# Altium footprint library CAMERON.PcbLib: 58 footprints (part 4 of 4)
Each footprint in its own frame and in the unit in brackets; x right, y up, seen from the top. Pads: shape width x height; smd on the part's side, far side on the other; paste and mask are expansions set on the pad; w line width, h text height; cw(c..) or ccw(c..) is an arc to the next point about the centre after c.
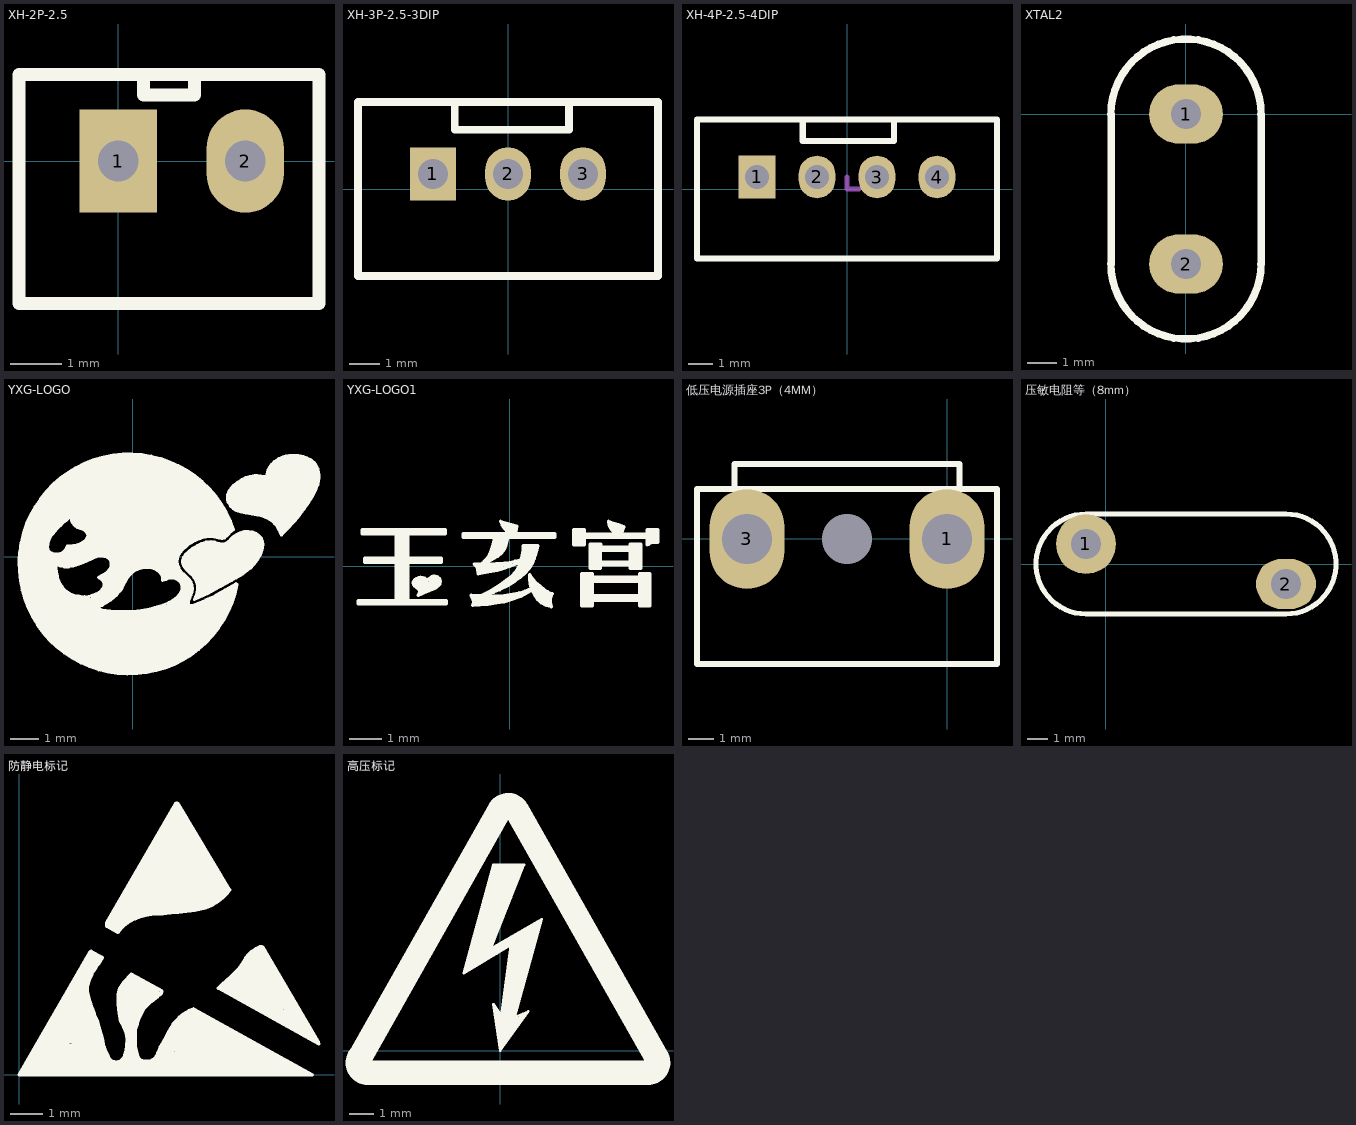
[diagram p3: the footprints below, top view; thin cyan lines are the x and y axes]

## XH-2P-2.5 [mil]
pads (2):
  rect 60x80 hole 31.5: 1(0,0)
  oval 60x80 hole 31.5: 2(98.43,0)
Top Overlay:
  lines w10: 19.69,66.93 19.69,51.18 59.06,51.18 59.06,66.93 ; -76.77,-110.24 -76.77,66.93 155.51,66.93 155.51,-110.24 -76.77,-110.24

## XH-3P-2.5-3DIP [mil]
height 90.55
pads (3):
  rect 60x70 hole 40: 1(-98.43,19.69)
  oval 60x70 hole 40: 2(0,19.69) 3(98.43,19.69)
Top Overlay:
  lines w10: -196.85,-114.17 -196.85,114.17 196.85,114.17 196.85,-114.17 -196.65,-114.17 ; -70,112.69 -70,77.69 80,77.69 80,112.69
Mechanical 15:
  lines w8: 0,0 0,28.69

## XH-4P-2.5-4DIP [mil]
height 90.55
pads (4):
  rect 60x70 hole 40: 1(-147.64,19.69)
  oval 60x70 hole 40: 2(-49.21,19.69) 3(49.21,19.68) 4(147.64,19.68)
Top Overlay:
  lines w10: -72.64,113.69 -72.64,78.69 77.36,78.69 77.36,113.69 ; -246.06,-114.17 246.06,-114.17 246.06,114.17 -246.06,114.17 -246.06,-114.17
Mechanical 15:
  lines w8: 0,20 0,0 20,0

## XTAL2 [mm]
pads (2):
  oval 2.5x2 hole 1: 1(0,0) 2(0,-5.08)
Top Overlay:
  lines w0.254: -2.54,-5.08 ccw(c0,-5.08) 2.54,-5.08 2.54,0 ccw(c0,0) -2.54,0 -2.54,-5.08

## YXG-LOGO [mm]
Top Overlay:
  drawing of 585 lines, arcs and shapes, not listed

## YXG-LOGO1 [mm]
Top Overlay:
  drawing of 394 lines, arcs and shapes, not listed

## 低压电源插座3P（4MM） [mm]
pads (3):
  oval 3x4 hole 2: 1(-0.011,-0.005) 3(-8.011,-0.005)
  round 0 on Keep-Out hole 2: 2(-4.011,-0.005)
Top Overlay:
  lines w0.254: -10.011,1.994 -10.011,-5.005 1.989,-5.005 1.989,1.995 0.489,1.995 ; -10.01,1.995 -8.511,1.995 ; -8.511,1.995 -8.511,2.995 0.489,2.995 0.489,1.995 ; -8.511,1.995 0.489,1.995

## 压敏电阻等（8mm） [mm]
pads (2):
  round 3 hole 1.5: 1(-1,1)
  oval 3x2.5 hole 1.5: 2(9,-1)
Top Overlay:
  lines w0.254: -1,-2.5 cw(c-1,0) -1,2.5 9,2.5 cw(c9,0) 9,-2.5 -1,-2.5

## 防静电标记 [mm]
Top Overlay:
  drawing of 213 lines, arcs and shapes, not listed

## 高压标记 [mm]
Top Overlay:
  lines w0.1: -1.475,3.15 -0.275,7.55 0.975,7.55 -0.375,4.15 1.7,5.35 0.6,1.375 1.15,1.6 0,0 -0.275,1.9 0.05,1.425 0.425,4.275 -1.475,3.15
  lines w0.2: -1.375,3.3 -1.175,3.475 ; -1.3,3.525 -1,3.525 ; -1.275,3.625 -0.8,3.625 ; -1.25,3.75 -0.6,3.75 ; -1.225,3.875 -0.375,3.875 ; -1.175,4 -0.15,4 ; -1.125,4.175 -0.375,4.175 ; -1.075,4.35 -0.375,4.35 ; -1.05,4.525 -0.3,4.525 ; -1,4.7 -0.225,4.7 ; -0.95,4.875 -0.15,4.875 ; -0.9,5.05 -0.1,5.05 ; -0.85,5.225 -0.025,5.225 ; -0.8,5.4 0.05,5.4 ; -0.75,5.575 0.125,5.575 ; -0.7,5.75 0.175,5.75 ; -0.65,5.9 0.25,5.9 ; -0.625,6.075 0.325,6.075 ; -0.575,6.25 0.4,6.25 ; -0.525,6.425 0.45,6.425 ; -0.475,6.6 0.5,6.6 ; -0.425,6.75 0.55,6.75 ; -0.375,6.9 0.65,6.9 ; -0.35,7.075 0.725,7.075 ; -0.3,4.075 1.6,5.2 ; -0.3,7.25 0.775,7.25 ; -0.25,7.425 0.85,7.425 ; -0.175,1.65 0.05,0.2 ; -0.125,4.075 1.525,5.025 ; 0.025,1.425 0.175,0.35 ; 0.1,0.95 0.55,4.4 ; 0.2,0.75 0.65,1.35 ; 0.225,0.5 0.925,1.45 ; 0.225,0.95 1.25,4.825 ; 0.275,1.575 1.025,4.725 ; 0.35,0.925 1.45,4.9 ; 0.425,2.6 0.875,4.6 ; 0.55,3.6 0.7,4.475
  lines w1: 6.044,-0.887 -5.346,-0.888 cw(c-5.366,-0.488) -5.704,-0.273 0.017,9.817 cw(c0.331,9.569) 0.675,9.773 6.375,-0.311 cw(c6.014,-0.483) 6.044,-0.882